# Altium schematic symbol library Ferrite bead.Schlib: 1 symbol
Pins are listed as number, name and electrical type; pins without a type are passive.

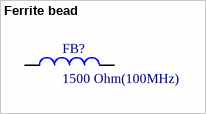
[diagram p0: symbol Ferrite bead]

## Ferrite bead
designator FB?, comment 1500 Ohm(100MHz)
Ferrite bead 1500 Ohm(100MHz)
pins: 1, 2